# Altium schematic symbol library kmilo17pet-NSC_Switcher.SchLib: 2226 symbols (part 49 of 59)
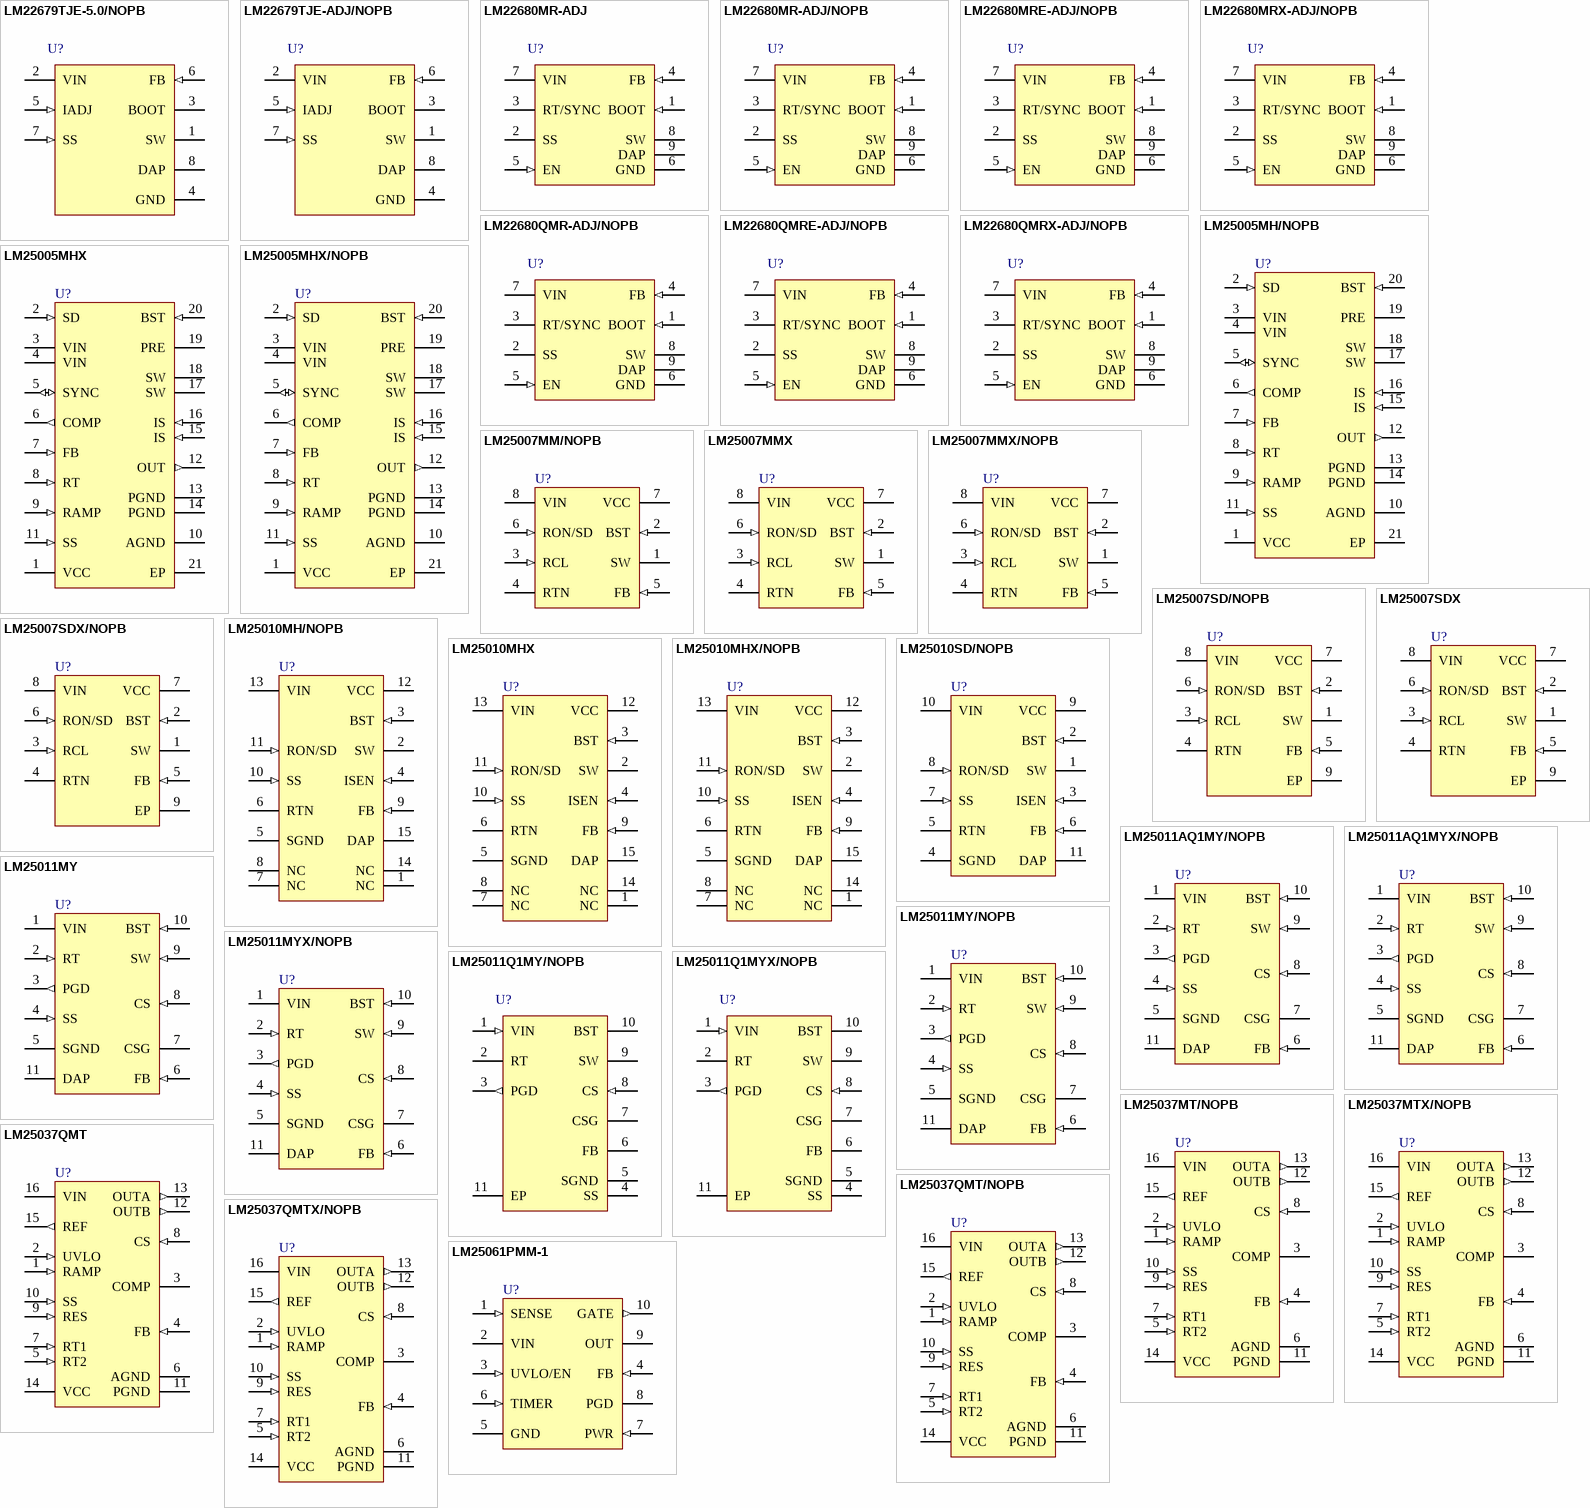
[diagram p117: symbols LM22679TJE-5.0/NOPB to LM25061PMM-1]

## LM22679TJE-ADJ/NOPB
designator U?
5A SIMPLE SWITCHER®, Step-Down Voltage Regulator with Adjustable Soft-Start and Current Limit, 7-pin TO-263 Thin, Pb-Free; PartNumber: LM22679TJE-ADJ/NOPB; Manufacturer: National Semiconductor; PackageTopMarking: NSUZXYTTE#*LM22679*TJ-ADJ; PowerWise: N; High-Reliability: Y; DatasheetVersion: Oct-2008; PackageVersion: revC, Jan-2008; PackageReference: TJ7A; PackageDescription: Thin TO-263, Molded, 9.85 x 10.16 x 2mm Body, 7 Lead, 1.27mm Pitch, Surface Mount; RoHS: Y; PinCount: 7; CompType: Switcher; ComponentLink1Description: Manufacturer URL; ComponentLink1URL: http://www.national.com/; ComponentLink2Description: LM22679 Datasheet; ComponentLink2URL: http://www.national.com/ds/LM/LM22679.pdf; ComponentLink3Description: LM22679 Web Page; ComponentLink3URL: http://www.national.com/pf/LM/LM22679.html; ComponentLink4Description: TJ7A Package Page; ComponentLink4URL: http://www.national.com/packaging/folders/tj7a.html
footprint TJ7A_N (D2-PAK, 8-Leads, Body 9.9x10.2mm, Pitch 1.27mm, Lead Span 14mm, IPC Medium Density)
footprint TJ7A_L (D2-PAK, 8-Leads, Body 9.9x10.2mm, Pitch 1.27mm, Lead Span 14mm, IPC High Density)
footprint TJ7A_M (D2-PAK, 8-Leads, Body 9.9x10.2mm, Pitch 1.27mm, Lead Span 14mm, IPC Low Density)
pins: 1 SW (power), 2 VIN (power), 3 BOOT, 4 GND (power), 5 IADJ (in), 6 FB (in), 7 SS (in), 8 DAP (power)

## LM22680MR-ADJ
designator U?
2A SIMPLE SWITCHER®, Step-Down Voltage Regulator with Features, 8-pin PSOP; PartNumber: LM22680MR-ADJ; Manufacturer: National Semiconductor; PackageTopMarking: NSXYTT*L22680*-ADJ; PowerWise: N; High-Reliability: Y; DatasheetVersion: Jan-2011; PackageVersion: revB, Dec-2007; PackageReference: MRA08B; PackageDescription: Molded, PSOP .193 x .154 x .058in, 8 Lead, .050in Pitch, Large DAP; RoHS: Y; PinCount: 8; CompType: Switcher; Code_JEDEC: MS-012-AA; ComponentLink1Description: Manufacturer URL; ComponentLink1URL: http://www.national.com/; ComponentLink2Description: LM22680 Datasheet; ComponentLink2URL: http://www.national.com/ds/LM/LM22680.pdf; ComponentLink3Description: LM22680 Web Page; ComponentLink3URL: http://www.national.com/pf/LM/LM22680.html; ComponentLink4Description: MRA08B Package Page; ComponentLink4URL: http://www.national.com/packaging/folders/mra08b.html
footprint MRA08B_N (SOIC, 8-Leads, Body 4.9x3.9mm, Pitch 1.27mm, Thermal Pad, IPC Medium Density)
footprint MRA08B_L (SOIC, 8-Leads, Body 4.9x3.9mm, Pitch 1.27mm, Thermal Pad, IPC High Density)
footprint MRA08B_M (SOIC, 8-Leads, Body 4.9x3.9mm, Pitch 1.27mm, Thermal Pad, IPC Low Density)
pins: 1 BOOT (in), 2 SS, 3 RT/SYNC, 4 FB (in), 5 EN (in), 6 GND (power), 7 VIN (power), 8 SW, 9 DAP

## LM22680MR-ADJ/NOPB
designator U?
2A SIMPLE SWITCHER®, Step-Down Voltage Regulator with Features, 8-pin PSOP, Pb-Free; PartNumber: LM22680MR-ADJ/NOPB; Manufacturer: National Semiconductor; PackageTopMarking: NSXYTT*L22680*-ADJ; PowerWise: N; High-Reliability: Y; DatasheetVersion: Jan-2011; PackageVersion: revB, Dec-2007; PackageReference: MRA08B; PackageDescription: Molded, PSOP .193 x .154 x .058in, 8 Lead, .050in Pitch, Large DAP; RoHS: Y; PinCount: 8; CompType: Switcher; Code_JEDEC: MS-012-AA; ComponentLink1Description: Manufacturer URL; ComponentLink1URL: http://www.national.com/; ComponentLink2Description: LM22680 Datasheet; ComponentLink2URL: http://www.national.com/ds/LM/LM22680.pdf; ComponentLink3Description: LM22680 Web Page; ComponentLink3URL: http://www.national.com/pf/LM/LM22680.html; ComponentLink4Description: MRA08B Package Page; ComponentLink4URL: http://www.national.com/packaging/folders/mra08b.html
footprint MRA08B_N (SOIC, 8-Leads, Body 4.9x3.9mm, Pitch 1.27mm, Thermal Pad, IPC Medium Density)
footprint MRA08B_L (SOIC, 8-Leads, Body 4.9x3.9mm, Pitch 1.27mm, Thermal Pad, IPC High Density)
footprint MRA08B_M (SOIC, 8-Leads, Body 4.9x3.9mm, Pitch 1.27mm, Thermal Pad, IPC Low Density)
pins: 1 BOOT (in), 2 SS, 3 RT/SYNC, 4 FB (in), 5 EN (in), 6 GND (power), 7 VIN (power), 8 SW, 9 DAP

## LM22680MRE-ADJ/NOPB
designator U?
2A SIMPLE SWITCHER®, Step-Down Voltage Regulator with Features, 8-pin PSOP, Pb-Free; PartNumber: LM22680MRE-ADJ/NOPB; Manufacturer: National Semiconductor; PackageTopMarking: NSXYTT*L22680*-ADJ; PowerWise: N; High-Reliability: Y; DatasheetVersion: Jan-2011; PackageVersion: revB, Dec-2007; PackageReference: MRA08B; PackageDescription: Molded, PSOP .193 x .154 x .058in, 8 Lead, .050in Pitch, Large DAP; RoHS: Y; PinCount: 8; CompType: Switcher; Code_JEDEC: MS-012-AA; ComponentLink1Description: Manufacturer URL; ComponentLink1URL: http://www.national.com/; ComponentLink2Description: LM22680 Datasheet; ComponentLink2URL: http://www.national.com/ds/LM/LM22680.pdf; ComponentLink3Description: LM22680 Web Page; ComponentLink3URL: http://www.national.com/pf/LM/LM22680.html; ComponentLink4Description: MRA08B Package Page; ComponentLink4URL: http://www.national.com/packaging/folders/mra08b.html
footprint MRA08B_N (SOIC, 8-Leads, Body 4.9x3.9mm, Pitch 1.27mm, Thermal Pad, IPC Medium Density)
footprint MRA08B_L (SOIC, 8-Leads, Body 4.9x3.9mm, Pitch 1.27mm, Thermal Pad, IPC High Density)
footprint MRA08B_M (SOIC, 8-Leads, Body 4.9x3.9mm, Pitch 1.27mm, Thermal Pad, IPC Low Density)
pins: 1 BOOT (in), 2 SS, 3 RT/SYNC, 4 FB (in), 5 EN (in), 6 GND (power), 7 VIN (power), 8 SW, 9 DAP

## LM22680MRX-ADJ/NOPB
designator U?
2A SIMPLE SWITCHER®, Step-Down Voltage Regulator with Features, 8-pin PSOP, Pb-Free; PartNumber: LM22680MRX-ADJ/NOPB; Manufacturer: National Semiconductor; PackageTopMarking: NSXYTT*L22680*-ADJ; PowerWise: N; High-Reliability: Y; DatasheetVersion: Jan-2011; PackageVersion: revB, Dec-2007; PackageReference: MRA08B; PackageDescription: Molded, PSOP .193 x .154 x .058in, 8 Lead, .050in Pitch, Large DAP; RoHS: Y; PinCount: 8; CompType: Switcher; Code_JEDEC: MS-012-AA; ComponentLink1Description: Manufacturer URL; ComponentLink1URL: http://www.national.com/; ComponentLink2Description: LM22680 Datasheet; ComponentLink2URL: http://www.national.com/ds/LM/LM22680.pdf; ComponentLink3Description: LM22680 Web Page; ComponentLink3URL: http://www.national.com/pf/LM/LM22680.html; ComponentLink4Description: MRA08B Package Page; ComponentLink4URL: http://www.national.com/packaging/folders/mra08b.html
footprint MRA08B_N (SOIC, 8-Leads, Body 4.9x3.9mm, Pitch 1.27mm, Thermal Pad, IPC Medium Density)
footprint MRA08B_L (SOIC, 8-Leads, Body 4.9x3.9mm, Pitch 1.27mm, Thermal Pad, IPC High Density)
footprint MRA08B_M (SOIC, 8-Leads, Body 4.9x3.9mm, Pitch 1.27mm, Thermal Pad, IPC Low Density)
pins: 1 BOOT (in), 2 SS, 3 RT/SYNC, 4 FB (in), 5 EN (in), 6 GND (power), 7 VIN (power), 8 SW, 9 DAP

## LM22680QMR-ADJ/NOPB
designator U?
2A SIMPLE SWITCHER®, Step-Down Voltage Regulator with Features, Adjustable Output, Automotive Grade, 8-pin PSOP, 95 Rail; PartNumber: LM22680QMR-ADJ/NOPB; Manufacturer: National Semiconductor; PackageTopMarking: NSXYTT*L22680*Q-ADJ; PowerWise: N; High-Reliability: Y; DatasheetVersion: Jan-2011; PackageVersion: revB, Dec-2007; PackageReference: MRA08B; PackageDescription: Molded, PSOP .193 x .154 x .058in, 8 Lead, .050in Pitch, Large DAP; RoHS: Y; PinCount: 8; CompType: Switcher; Code_JEDEC: MS-012-AA; ComponentLink1Description: Manufacturer URL; ComponentLink1URL: http://www.national.com/; ComponentLink2Description: LM22680 Datasheet; ComponentLink2URL: http://www.national.com/ds/LM/LM22680.pdf; ComponentLink3Description: LM22680 Web Page; ComponentLink3URL: http://www.national.com/pf/LM/LM22680.html; ComponentLink4Description: MRA08B Package Page; ComponentLink4URL: http://www.national.com/packaging/folders/mra08b.html
footprint MRA08B_N (SOIC, 8-Leads, Body 4.9x3.9mm, Pitch 1.27mm, Thermal Pad, IPC Medium Density)
footprint MRA08B_L (SOIC, 8-Leads, Body 4.9x3.9mm, Pitch 1.27mm, Thermal Pad, IPC High Density)
footprint MRA08B_M (SOIC, 8-Leads, Body 4.9x3.9mm, Pitch 1.27mm, Thermal Pad, IPC Low Density)
pins: 1 BOOT (in), 2 SS, 3 RT/SYNC, 4 FB (in), 5 EN (in), 6 GND (power), 7 VIN (power), 8 SW, 9 DAP

## LM22680QMRE-ADJ/NOPB
designator U?
2A SIMPLE SWITCHER®, Step-Down Voltage Regulator with Features, Adjustable Output, Automotive Grade, 8-pin PSOP, 250 Reel; PartNumber: LM22680QMRE-ADJ/NOPB; Manufacturer: National Semiconductor; PackageTopMarking: NSXYTT*L22680*Q-ADJ; PowerWise: N; High-Reliability: Y; DatasheetVersion: Jan-2011; PackageVersion: revB, Dec-2007; PackageReference: MRA08B; PackageDescription: Molded, PSOP .193 x .154 x .058in, 8 Lead, .050in Pitch, Large DAP; RoHS: Y; PinCount: 8; CompType: Switcher; Code_JEDEC: MS-012-AA; ComponentLink1Description: Manufacturer URL; ComponentLink1URL: http://www.national.com/; ComponentLink2Description: LM22680 Datasheet; ComponentLink2URL: http://www.national.com/ds/LM/LM22680.pdf; ComponentLink3Description: LM22680 Web Page; ComponentLink3URL: http://www.national.com/pf/LM/LM22680.html; ComponentLink4Description: MRA08B Package Page; ComponentLink4URL: http://www.national.com/packaging/folders/mra08b.html
footprint MRA08B_N (SOIC, 8-Leads, Body 4.9x3.9mm, Pitch 1.27mm, Thermal Pad, IPC Medium Density)
footprint MRA08B_L (SOIC, 8-Leads, Body 4.9x3.9mm, Pitch 1.27mm, Thermal Pad, IPC High Density)
footprint MRA08B_M (SOIC, 8-Leads, Body 4.9x3.9mm, Pitch 1.27mm, Thermal Pad, IPC Low Density)
pins: 1 BOOT (in), 2 SS, 3 RT/SYNC, 4 FB (in), 5 EN (in), 6 GND (power), 7 VIN (power), 8 SW, 9 DAP

## LM22680QMRX-ADJ/NOPB
designator U?
2A SIMPLE SWITCHER®, Step-Down Voltage Regulator with Features, Adjustable Output, Automotive Grade, 8-pin PSOP, 2500 Reel; PartNumber: LM22680QMRX-ADJ/NOPB; Manufacturer: National Semiconductor; PackageTopMarking: NSXYTT*L22680*Q-ADJ; PowerWise: N; High-Reliability: Y; DatasheetVersion: Jan-2011; PackageVersion: revB, Dec-2007; PackageReference: MRA08B; PackageDescription: Molded, PSOP .193 x .154 x .058in, 8 Lead, .050in Pitch, Large DAP; RoHS: Y; PinCount: 8; CompType: Switcher; Code_JEDEC: MS-012-AA; ComponentLink1Description: Manufacturer URL; ComponentLink1URL: http://www.national.com/; ComponentLink2Description: LM22680 Datasheet; ComponentLink2URL: http://www.national.com/ds/LM/LM22680.pdf; ComponentLink3Description: LM22680 Web Page; ComponentLink3URL: http://www.national.com/pf/LM/LM22680.html; ComponentLink4Description: MRA08B Package Page; ComponentLink4URL: http://www.national.com/packaging/folders/mra08b.html
footprint MRA08B_N (SOIC, 8-Leads, Body 4.9x3.9mm, Pitch 1.27mm, Thermal Pad, IPC Medium Density)
footprint MRA08B_L (SOIC, 8-Leads, Body 4.9x3.9mm, Pitch 1.27mm, Thermal Pad, IPC High Density)
footprint MRA08B_M (SOIC, 8-Leads, Body 4.9x3.9mm, Pitch 1.27mm, Thermal Pad, IPC Low Density)
pins: 1 BOOT (in), 2 SS, 3 RT/SYNC, 4 FB (in), 5 EN (in), 6 GND (power), 7 VIN (power), 8 SW, 9 DAP

## LM25005MH/NOPB
designator U?
42V, 2.5A Step-Down Switching Regulator, 20-pin TSSOP-EP, Pb-Free; PartNumber: LM25005MH/NOPB; Manufacturer: National Semiconductor; PackageTopMarking: NSUZXYTT*LM25005*MH; PowerWise: N; CompType: Switcher; High-Reliability: Y; DatasheetVersion: Mar-2006; PackageVersion: revC, Jul-2006; PackageReference: MXA20A; PackageDescription: Molded TSSOP, Jedec, 6.5 x 4.4 x 0.9mm Body, 20 Lead, 0.65mm Pitch, Exposed Pad; RoHS: Y; PinCount: 20; Code_JEDEC: MO-153-ACT; ComponentLink1Description: Manufacturer URL; ComponentLink1URL: http://www.national.com/; ComponentLink2Description: LM25005 Datasheet; ComponentLink2URL: http://www.national.com/ds/LM/LM25005.pdf; ComponentLink3Description: LM25005 Web Page; ComponentLink3URL: http://www.national.com/pf/LM/LM25005.html; ComponentLink4Description: MXA20A Package Page; ComponentLink4URL: http://www.national.com/packaging/folders/mxa20a.html
footprint MXA20A_N (TSOP, 20-Leads, Body 6.5x4.4mm, Pitch 0.65mm, Thermal Pad, IPC Medium Density)
footprint MXA20A_L (TSOP, 20-Leads, Body 6.5x4.4mm, Pitch 0.65mm, Thermal Pad, IPC High Density)
footprint MXA20A_M (TSOP, 20-Leads, Body 6.5x4.4mm, Pitch 0.65mm, Thermal Pad, IPC Low Density)
pins: 1 VCC (power), 2 SD (in), 3 VIN (power), 4 VIN (power), 5 SYNC (io), 6 COMP (out), 7 FB (in), 8 RT (in), 9 RAMP (in), 10 AGND (power), 11 SS (in), 12 OUT (out), 13 PGND (power), 14 PGND (power), 15 IS (in), 16 IS (in), 17 SW (power), 18 SW (power), 19 PRE (oc), 20 BST (in), 21 EP (power)

## LM25005MHX
designator U?
42V, 2.5A Step-Down Switching Regulator, 20-pin TSSOP-EP; PartNumber: LM25005MHX; Manufacturer: National Semiconductor; PackageTopMarking: NSUZXYTT*LM25005*MH; PowerWise: N; CompType: Switcher; High-Reliability: Y; DatasheetVersion: Mar-2006; PackageVersion: revC, Jul-2006; PackageReference: MXA20A; PackageDescription: Molded TSSOP, Jedec, 6.5 x 4.4 x 0.9mm Body, 20 Lead, 0.65mm Pitch, Exposed Pad; RoHS: N; PinCount: 20; Code_JEDEC: MO-153-ACT; ComponentLink1Description: Manufacturer URL; ComponentLink1URL: http://www.national.com/; ComponentLink2Description: LM25005 Datasheet; ComponentLink2URL: http://www.national.com/ds/LM/LM25005.pdf; ComponentLink3Description: LM25005 Web Page; ComponentLink3URL: http://www.national.com/pf/LM/LM25005.html; ComponentLink4Description: MXA20A Package Page; ComponentLink4URL: http://www.national.com/packaging/folders/mxa20a.html
footprint MXA20A_N (TSOP, 20-Leads, Body 6.5x4.4mm, Pitch 0.65mm, Thermal Pad, IPC Medium Density)
footprint MXA20A_L (TSOP, 20-Leads, Body 6.5x4.4mm, Pitch 0.65mm, Thermal Pad, IPC High Density)
footprint MXA20A_M (TSOP, 20-Leads, Body 6.5x4.4mm, Pitch 0.65mm, Thermal Pad, IPC Low Density)
pins: 1 VCC (power), 2 SD (in), 3 VIN (power), 4 VIN (power), 5 SYNC (io), 6 COMP (out), 7 FB (in), 8 RT (in), 9 RAMP (in), 10 AGND (power), 11 SS (in), 12 OUT (out), 13 PGND (power), 14 PGND (power), 15 IS (in), 16 IS (in), 17 SW (power), 18 SW (power), 19 PRE (oc), 20 BST (in), 21 EP (power)

## LM25005MHX/NOPB
designator U?
42V, 2.5A Step-Down Switching Regulator, 20-pin TSSOP-EP, Pb-Free; PartNumber: LM25005MHX/NOPB; Manufacturer: National Semiconductor; PackageTopMarking: NSUZXYTT*LM25005*MH; PowerWise: N; CompType: Switcher; High-Reliability: Y; DatasheetVersion: Mar-2006; PackageVersion: revC, Jul-2006; PackageReference: MXA20A; PackageDescription: Molded TSSOP, Jedec, 6.5 x 4.4 x 0.9mm Body, 20 Lead, 0.65mm Pitch, Exposed Pad; RoHS: Y; PinCount: 20; Code_JEDEC: MO-153-ACT; ComponentLink1Description: Manufacturer URL; ComponentLink1URL: http://www.national.com/; ComponentLink2Description: LM25005 Datasheet; ComponentLink2URL: http://www.national.com/ds/LM/LM25005.pdf; ComponentLink3Description: LM25005 Web Page; ComponentLink3URL: http://www.national.com/pf/LM/LM25005.html; ComponentLink4Description: MXA20A Package Page; ComponentLink4URL: http://www.national.com/packaging/folders/mxa20a.html
footprint MXA20A_N (TSOP, 20-Leads, Body 6.5x4.4mm, Pitch 0.65mm, Thermal Pad, IPC Medium Density)
footprint MXA20A_L (TSOP, 20-Leads, Body 6.5x4.4mm, Pitch 0.65mm, Thermal Pad, IPC High Density)
footprint MXA20A_M (TSOP, 20-Leads, Body 6.5x4.4mm, Pitch 0.65mm, Thermal Pad, IPC Low Density)
pins: 1 VCC (power), 2 SD (in), 3 VIN (power), 4 VIN (power), 5 SYNC (io), 6 COMP (out), 7 FB (in), 8 RT (in), 9 RAMP (in), 10 AGND (power), 11 SS (in), 12 OUT (out), 13 PGND (power), 14 PGND (power), 15 IS (in), 16 IS (in), 17 SW (power), 18 SW (power), 19 PRE (oc), 20 BST (in), 21 EP (power)

## LM25007MM/NOPB
designator U?
42V, 0.5A Step-Down Switching Regulator, 8-pin MSOP, Pb-Free; PartNumber: LM25007MM/NOPB; Manufacturer: National Semiconductor; PackageTopMarking: ZXTT*SLYB; PowerWise: N; CompType: Switcher; High-Reliability: Y; DatasheetVersion: Feb-2008; PackageVersion: revF, Apr-2008; PackageReference: MUA08A; PackageDescription: MINI SOIC, .118 x .118 x .034in, 8 Lead, .0256in Pitch; RoHS: Y; PinCount: 8; Code_JEDEC: MO-187-AA; ComponentLink1Description: Manufacturer URL; ComponentLink1URL: http://www.national.com/; ComponentLink2Description: LM25007 Datasheet; ComponentLink2URL: http://www.national.com/ds/LM/LM25007.pdf; ComponentLink3Description: LM25007 Web Page; ComponentLink3URL: http://www.national.com/pf/LM/LM25007.html; ComponentLink4Description: MUA08A Package Page; ComponentLink4URL: http://www.national.com/packaging/folders/mua08a.html
footprint MUA08A_N (TSOP, 8-Leads, Body 3x3mm, Pitch 0.65mm, IPC Medium Density)
footprint MUA08A_L (TSOP, 8-Leads, Body 3x3mm, Pitch 0.65mm, IPC High Density)
footprint MUA08A_M (TSOP, 8-Leads, Body 3x3mm, Pitch 0.65mm, IPC Low Density)
pins: 1 SW (power), 2 BST (in), 3 RCL (in), 4 RTN (power), 5 FB (in), 6 RON/SD (in), 7 VCC (power), 8 VIN (power)

## LM25007MMX
designator U?
42V, 0.5A Step-Down Switching Regulator, 8-pin MSOP; PartNumber: LM25007MMX; Manufacturer: National Semiconductor; PackageTopMarking: ZXTT*SLYB; PowerWise: N; CompType: Switcher; High-Reliability: Y; DatasheetVersion: Feb-2008; PackageVersion: revF, Apr-2008; PackageReference: MUA08A; PackageDescription: MINI SOIC, .118 x .118 x .034in, 8 Lead, .0256in Pitch; RoHS: N; PinCount: 8; Code_JEDEC: MO-187-AA; ComponentLink1Description: Manufacturer URL; ComponentLink1URL: http://www.national.com/; ComponentLink2Description: LM25007 Datasheet; ComponentLink2URL: http://www.national.com/ds/LM/LM25007.pdf; ComponentLink3Description: LM25007 Web Page; ComponentLink3URL: http://www.national.com/pf/LM/LM25007.html; ComponentLink4Description: MUA08A Package Page; ComponentLink4URL: http://www.national.com/packaging/folders/mua08a.html
footprint MUA08A_N (TSOP, 8-Leads, Body 3x3mm, Pitch 0.65mm, IPC Medium Density)
footprint MUA08A_L (TSOP, 8-Leads, Body 3x3mm, Pitch 0.65mm, IPC High Density)
footprint MUA08A_M (TSOP, 8-Leads, Body 3x3mm, Pitch 0.65mm, IPC Low Density)
pins: 1 SW (power), 2 BST (in), 3 RCL (in), 4 RTN (power), 5 FB (in), 6 RON/SD (in), 7 VCC (power), 8 VIN (power)

## LM25007MMX/NOPB
designator U?
42V, 0.5A Step-Down Switching Regulator, 8-pin MSOP, Pb-Free; PartNumber: LM25007MMX/NOPB; Manufacturer: National Semiconductor; PackageTopMarking: ZXTT*SLYB; PowerWise: N; CompType: Switcher; High-Reliability: Y; DatasheetVersion: Feb-2008; PackageVersion: revF, Apr-2008; PackageReference: MUA08A; PackageDescription: MINI SOIC, .118 x .118 x .034in, 8 Lead, .0256in Pitch; RoHS: Y; PinCount: 8; Code_JEDEC: MO-187-AA; ComponentLink1Description: Manufacturer URL; ComponentLink1URL: http://www.national.com/; ComponentLink2Description: LM25007 Datasheet; ComponentLink2URL: http://www.national.com/ds/LM/LM25007.pdf; ComponentLink3Description: LM25007 Web Page; ComponentLink3URL: http://www.national.com/pf/LM/LM25007.html; ComponentLink4Description: MUA08A Package Page; ComponentLink4URL: http://www.national.com/packaging/folders/mua08a.html
footprint MUA08A_N (TSOP, 8-Leads, Body 3x3mm, Pitch 0.65mm, IPC Medium Density)
footprint MUA08A_L (TSOP, 8-Leads, Body 3x3mm, Pitch 0.65mm, IPC High Density)
footprint MUA08A_M (TSOP, 8-Leads, Body 3x3mm, Pitch 0.65mm, IPC Low Density)
pins: 1 SW (power), 2 BST (in), 3 RCL (in), 4 RTN (power), 5 FB (in), 6 RON/SD (in), 7 VCC (power), 8 VIN (power)

## LM25007SD/NOPB
designator U?
42V, 0.5A Step-Down Switching Regulator, 8-pin LLP, Pb-Free; PartNumber: LM25007SD/NOPB; Manufacturer: National Semiconductor; PackageTopMarking: NS*UZXYTT*25007SD; PowerWise: N; CompType: Switcher; High-Reliability: Y; DatasheetVersion: Feb-2008; PackageVersion: revA, Jun-2003; PackageReference: SDC08A; PackageDescription: LLP, Plastic, Dual, 4 x 4 x 0.8mm Body, 8 Lead, 0.8mm Pitch, No Pullback; RoHS: Y; PinCount: 8; ComponentLink1Description: Manufacturer URL; ComponentLink1URL: http://www.national.com/; ComponentLink2Description: LM25007 Datasheet; ComponentLink2URL: http://www.national.com/ds/LM/LM25007.pdf; ComponentLink3Description: LM25007 Web Page; ComponentLink3URL: http://www.national.com/pf/LM/LM25007.html; ComponentLink4Description: SDC08A Package Page; ComponentLink4URL: http://www.national.com/packaging/folders/sdc08a.html
footprint SDC08A (SON, 8-Leads, Body 4x4mm, Pitch 0.8mm, NSC Recommended)
pins: 1 SW (power), 2 BST (in), 3 RCL (in), 4 RTN (power), 5 FB (in), 6 RON/SD (in), 7 VCC (power), 8 VIN (power), 9 EP (power)

## LM25007SDX
designator U?
42V, 0.5A Step-Down Switching Regulator, 8-pin LLP; PartNumber: LM25007SDX; Manufacturer: National Semiconductor; PackageTopMarking: NS*UZXYTT*25007SD; PowerWise: N; CompType: Switcher; High-Reliability: Y; DatasheetVersion: Feb-2008; PackageVersion: revA, Jun-2003; PackageReference: SDC08A; PackageDescription: LLP, Plastic, Dual, 4 x 4 x 0.8mm Body, 8 Lead, 0.8mm Pitch, No Pullback; RoHS: N; PinCount: 8; ComponentLink1Description: Manufacturer URL; ComponentLink1URL: http://www.national.com/; ComponentLink2Description: LM25007 Datasheet; ComponentLink2URL: http://www.national.com/ds/LM/LM25007.pdf; ComponentLink3Description: LM25007 Web Page; ComponentLink3URL: http://www.national.com/pf/LM/LM25007.html; ComponentLink4Description: SDC08A Package Page; ComponentLink4URL: http://www.national.com/packaging/folders/sdc08a.html
footprint SDC08A (SON, 8-Leads, Body 4x4mm, Pitch 0.8mm, NSC Recommended)
pins: 1 SW (power), 2 BST (in), 3 RCL (in), 4 RTN (power), 5 FB (in), 6 RON/SD (in), 7 VCC (power), 8 VIN (power), 9 EP (power)

## LM25007SDX/NOPB
designator U?
42V, 0.5A Step-Down Switching Regulator, 8-pin LLP, Pb-Free; PartNumber: LM25007SDX/NOPB; Manufacturer: National Semiconductor; PackageTopMarking: NS*UZXYTT*25007SD; PowerWise: N; CompType: Switcher; High-Reliability: Y; DatasheetVersion: Feb-2008; PackageVersion: revA, Jun-2003; PackageReference: SDC08A; PackageDescription: LLP, Plastic, Dual, 4 x 4 x 0.8mm Body, 8 Lead, 0.8mm Pitch, No Pullback; RoHS: Y; PinCount: 8; ComponentLink1Description: Manufacturer URL; ComponentLink1URL: http://www.national.com/; ComponentLink2Description: LM25007 Datasheet; ComponentLink2URL: http://www.national.com/ds/LM/LM25007.pdf; ComponentLink3Description: LM25007 Web Page; ComponentLink3URL: http://www.national.com/pf/LM/LM25007.html; ComponentLink4Description: SDC08A Package Page; ComponentLink4URL: http://www.national.com/packaging/folders/sdc08a.html
footprint SDC08A (SON, 8-Leads, Body 4x4mm, Pitch 0.8mm, NSC Recommended)
pins: 1 SW (power), 2 BST (in), 3 RCL (in), 4 RTN (power), 5 FB (in), 6 RON/SD (in), 7 VCC (power), 8 VIN (power), 9 EP (power)

## LM25010MH/NOPB
designator U?
42V, 1.0A Step-Down Switching Regulator, 14-pin TSSOP-EP, Pb-Free; PartNumber: LM25010MH/NOPB; Manufacturer: National Semiconductor; PackageTopMarking: NSUZXYTT*L25010*MH; PowerWise: N; CompType: Switcher; High-Reliability: Y; DatasheetVersion: Dec-2008; PackageVersion: revA, Feb-2003; PackageReference: MXA14A; PackageDescription: Molded TSSOP, JEDEC, Exposed Pad, 5.0 x 4.4 x 0.9mm Body, 14 Lead, 0.65mm Pitch; RoHS: Y; PinCount: 14; Code_JEDEC: MO-153-ABT-1; ComponentLink1Description: Manufacturer URL; ComponentLink1URL: http://www.national.com/; ComponentLink2Description: LM25010 Datasheet; ComponentLink2URL: http://www.national.com/ds/LM/LM25010.pdf; ComponentLink3Description: LM25010 Web Page; ComponentLink3URL: http://www.national.com/pf/LM/LM25010.html; ComponentLink4Description: MXA14A Package Page; ComponentLink4URL: http://www.national.com/packaging/folders/mxa14a.html
footprint MXA14A_N (TSOP, 14-Leads, Body 5x4.4mm, Pitch 0.65mm, Thermal Pad, IPC Medium Density)
footprint MXA14A_L (TSOP, 14-Leads, Body 5x4.4mm, Pitch 0.65mm, Thermal Pad, IPC High Density)
footprint MXA14A_M (TSOP, 14-Leads, Body 5x4.4mm, Pitch 0.65mm, Thermal Pad, IPC Low Density)
pins: 1 NC, 2 SW (power), 3 BST (in), 4 ISEN (in), 5 SGND (power), 6 RTN (power), 7 NC, 8 NC, 9 FB (in), 10 SS (in), 11 RON/SD (in), 12 VCC (power), 13 VIN (power), 14 NC, 15 DAP (power)

## LM25010MHX
designator U?
42V, 1.0A Step-Down Switching Regulator, 14-pin TSSOP-EP; PartNumber: LM25010MHX; Manufacturer: National Semiconductor; PackageTopMarking: NSUZXYTT*L25010*MH; PowerWise: N; CompType: Switcher; High-Reliability: Y; DatasheetVersion: Dec-2008; PackageVersion: revA, Feb-2003; PackageReference: MXA14A; PackageDescription: Molded TSSOP, JEDEC, Exposed Pad, 5.0 x 4.4 x 0.9mm Body, 14 Lead, 0.65mm Pitch; RoHS: N; PinCount: 14; Code_JEDEC: MO-153-ABT-1; ComponentLink1Description: Manufacturer URL; ComponentLink1URL: http://www.national.com/; ComponentLink2Description: LM25010 Datasheet; ComponentLink2URL: http://www.national.com/ds/LM/LM25010.pdf; ComponentLink3Description: LM25010 Web Page; ComponentLink3URL: http://www.national.com/pf/LM/LM25010.html; ComponentLink4Description: MXA14A Package Page; ComponentLink4URL: http://www.national.com/packaging/folders/mxa14a.html
footprint MXA14A_N (TSOP, 14-Leads, Body 5x4.4mm, Pitch 0.65mm, Thermal Pad, IPC Medium Density)
footprint MXA14A_L (TSOP, 14-Leads, Body 5x4.4mm, Pitch 0.65mm, Thermal Pad, IPC High Density)
footprint MXA14A_M (TSOP, 14-Leads, Body 5x4.4mm, Pitch 0.65mm, Thermal Pad, IPC Low Density)
pins: 1 NC, 2 SW (power), 3 BST (in), 4 ISEN (in), 5 SGND (power), 6 RTN (power), 7 NC, 8 NC, 9 FB (in), 10 SS (in), 11 RON/SD (in), 12 VCC (power), 13 VIN (power), 14 NC, 15 DAP (power)

## LM25010MHX/NOPB
designator U?
42V, 1.0A Step-Down Switching Regulator, 14-pin TSSOP-EP, Pb-Free; PartNumber: LM25010MHX/NOPB; Manufacturer: National Semiconductor; PackageTopMarking: NSUZXYTT*L25010*MH; PowerWise: N; CompType: Switcher; High-Reliability: Y; DatasheetVersion: Dec-2008; PackageVersion: revA, Feb-2003; PackageReference: MXA14A; PackageDescription: Molded TSSOP, JEDEC, Exposed Pad, 5.0 x 4.4 x 0.9mm Body, 14 Lead, 0.65mm Pitch; RoHS: Y; PinCount: 14; Code_JEDEC: MO-153-ABT-1; ComponentLink1Description: Manufacturer URL; ComponentLink1URL: http://www.national.com/; ComponentLink2Description: LM25010 Datasheet; ComponentLink2URL: http://www.national.com/ds/LM/LM25010.pdf; ComponentLink3Description: LM25010 Web Page; ComponentLink3URL: http://www.national.com/pf/LM/LM25010.html; ComponentLink4Description: MXA14A Package Page; ComponentLink4URL: http://www.national.com/packaging/folders/mxa14a.html
footprint MXA14A_N (TSOP, 14-Leads, Body 5x4.4mm, Pitch 0.65mm, Thermal Pad, IPC Medium Density)
footprint MXA14A_L (TSOP, 14-Leads, Body 5x4.4mm, Pitch 0.65mm, Thermal Pad, IPC High Density)
footprint MXA14A_M (TSOP, 14-Leads, Body 5x4.4mm, Pitch 0.65mm, Thermal Pad, IPC Low Density)
pins: 1 NC, 2 SW (power), 3 BST (in), 4 ISEN (in), 5 SGND (power), 6 RTN (power), 7 NC, 8 NC, 9 FB (in), 10 SS (in), 11 RON/SD (in), 12 VCC (power), 13 VIN (power), 14 NC, 15 DAP (power)

## LM25010SD/NOPB
designator U?
42V, 1.0A Step-Down Switching Regulator, 10-pin LLP, Pb-Free; PartNumber: LM25010SD/NOPB; Manufacturer: National Semiconductor; PackageTopMarking: NS*UZXYTT*25010SD; PowerWise: N; CompType: Switcher; High-Reliability: Y; DatasheetVersion: Dec-2008; PackageVersion: revA, May-2003; PackageReference: SDC10A; PackageDescription: LLP, Plastic, Dual, 4 x 4 x 0.8mm Body, 10 Lead, 0.8mm Pitch, No Pullback; RoHS: Y; PinCount: 10; ComponentLink1Description: Manufacturer URL; ComponentLink1URL: http://www.national.com/; ComponentLink2Description: LM25010 Datasheet; ComponentLink2URL: http://www.national.com/ds/LM/LM25010.pdf; ComponentLink3Description: LM25010 Web Page; ComponentLink3URL: http://www.national.com/pf/LM/LM25010.html; ComponentLink4Description: SDC10A Package Page; ComponentLink4URL: http://www.national.com/packaging/folders/sdc10a.html
footprint SDC10A (SON, 10-Leads, Body 4x4 mm, Pitch 0.8mm, NSC Recommended)
pins: 1 SW (power), 2 BST (in), 3 ISEN (in), 4 SGND (power), 5 RTN (power), 6 FB (in), 7 SS (in), 8 RON/SD (in), 9 VCC (power), 10 VIN (power), 11 DAP (power)

## LM25011AQ1MY/NOPB
designator U?
42V, 2A Constant On-Time Switching Regulator with Adjustable Current Limit, AEC-Q100 Grade 1, 10-pin Emsop, 1000 Reel; PartNumber: LM25011AQ1MY/NOPB; Manufacturer: National Semiconductor; PackageTopMarking: ZXTT*SZZA; PowerWise: N; CompType: Switcher; High-Reliability: Y; DatasheetVersion: Jan-2011; PackageVersion: revA, May-2006; PackageReference: MUC10A; PackageDescription: Molded Mini-SO, Exposed Pad .118 x .118 x .034in Body, 10 Lead, .0197in Pitch; RoHS: Y; PinCount: 10; Code_JEDEC: MO-187-BAT; ComponentLink1Description: Manufacturer URL; ComponentLink1URL: http://www.national.com/; ComponentLink2Description: LM25011 Datasheet; ComponentLink2URL: http://www.national.com/ds/LM/LM25011.pdf; ComponentLink3Description: LM25011 Web Page; ComponentLink3URL: http://www.national.com/pf/LM/LM25011.html; ComponentLink4Description: MUC10A Package Page; ComponentLink4URL: http://www.national.com/packaging/folders/muc10a.html
footprint MUC10A_N (TSSOP, 10-Leads, Body 3x3mm, Pitch 0.5mm, Exposed Pad, IPC Medium Density)
footprint MUC10A_L (TSSOP, 10-Leads, Body 3x3mm, Pitch 0.5mm, Exposed Pad, IPC High Density)
footprint MUC10A_M (TSSOP, 10-Leads, Body 3x3mm, Pitch 0.5mm, Exposed Pad, IPC Low Density)
pins: 1 VIN (power), 2 RT (in), 3 PGD (out), 4 SS (in), 5 SGND (power), 6 FB (in), 7 CSG (power), 8 CS (in), 9 SW (in), 10 BST (in), 11 DAP (power)

## LM25011AQ1MYX/NOPB
designator U?
42V, 2A Constant On-Time Switching Regulator with Adjustable Current Limit, AEC-Q100 Grade 1, 10-pin eMSOP, 3500 Reel; PartNumber: LM25011AQ1MYX/NOPB; Manufacturer: National Semiconductor; PackageTopMarking: ZXTT*SZZA; PowerWise: N; CompType: Switcher; High-Reliability: Y; DatasheetVersion: Jan-2011; PackageVersion: revA, May-2006; PackageReference: MUC10A; PackageDescription: Molded Mini-SO, Exposed Pad .118 x .118 x .034in Body, 10 Lead, .0197in Pitch; RoHS: Y; PinCount: 10; Code_JEDEC: MO-187-BAT; ComponentLink1Description: Manufacturer URL; ComponentLink1URL: http://www.national.com/; ComponentLink2Description: LM25011 Datasheet; ComponentLink2URL: http://www.national.com/ds/LM/LM25011.pdf; ComponentLink3Description: LM25011 Web Page; ComponentLink3URL: http://www.national.com/pf/LM/LM25011.html; ComponentLink4Description: MUC10A Package Page; ComponentLink4URL: http://www.national.com/packaging/folders/muc10a.html
footprint MUC10A_N (TSSOP, 10-Leads, Body 3x3mm, Pitch 0.5mm, Exposed Pad, IPC Medium Density)
footprint MUC10A_L (TSSOP, 10-Leads, Body 3x3mm, Pitch 0.5mm, Exposed Pad, IPC High Density)
footprint MUC10A_M (TSSOP, 10-Leads, Body 3x3mm, Pitch 0.5mm, Exposed Pad, IPC Low Density)
pins: 1 VIN (power), 2 RT (in), 3 PGD (out), 4 SS (in), 5 SGND (power), 6 FB (in), 7 CSG (power), 8 CS (in), 9 SW (in), 10 BST (in), 11 DAP (power)

## LM25011MY
designator U?
42V, 2A Constant On-Time Switching Regulator with Adjustable Current Limit, 10-pin eMSOP; PartNumber: LM25011MY; Manufacturer: National Semiconductor; PackageTopMarking: ZXTT*SVUB; PowerWise: N; CompType: Switcher; High-Reliability: Y; DatasheetVersion: Jan-2011; PackageVersion: revA, May-2006; PackageReference: MUC10A; PackageDescription: Molded Mini-SO, Exposed Pad .118 x .118 x .034in Body, 10 Lead, .0197in Pitch; RoHS: Y; PinCount: 10; Code_JEDEC: MO-187-BAT; ComponentLink1Description: Manufacturer URL; ComponentLink1URL: http://www.national.com/; ComponentLink2Description: LM25011 Datasheet; ComponentLink2URL: http://www.national.com/ds/LM/LM25011.pdf; ComponentLink3Description: LM25011 Web Page; ComponentLink3URL: http://www.national.com/pf/LM/LM25011.html; ComponentLink4Description: MUC10A Package Page; ComponentLink4URL: http://www.national.com/packaging/folders/muc10a.html
footprint MUC10A_N (TSSOP, 10-Leads, Body 3x3mm, Pitch 0.5mm, Exposed Pad, IPC Medium Density)
footprint MUC10A_L (TSSOP, 10-Leads, Body 3x3mm, Pitch 0.5mm, Exposed Pad, IPC High Density)
footprint MUC10A_M (TSSOP, 10-Leads, Body 3x3mm, Pitch 0.5mm, Exposed Pad, IPC Low Density)
pins: 1 VIN (power), 2 RT (in), 3 PGD (out), 4 SS (in), 5 SGND (power), 6 FB (in), 7 CSG (power), 8 CS (in), 9 SW (in), 10 BST (in), 11 DAP (power)

## LM25011MY/NOPB
designator U?
42V, 2A Constant On-Time Switching Regulator with Adjustable Current Limit, 10-pin eMSOP, Pb-Free; PartNumber: LM25011MY/NOPB; Manufacturer: National Semiconductor; PackageTopMarking: ZXTT*SVUB; PowerWise: N; CompType: Switcher; High-Reliability: Y; DatasheetVersion: Jan-2011; PackageVersion: revA, May-2006; PackageReference: MUC10A; PackageDescription: Molded Mini-SO, Exposed Pad .118 x .118 x .034in Body, 10 Lead, .0197in Pitch; RoHS: Y; PinCount: 10; Code_JEDEC: MO-187-BAT; ComponentLink1Description: Manufacturer URL; ComponentLink1URL: http://www.national.com/; ComponentLink2Description: LM25011 Datasheet; ComponentLink2URL: http://www.national.com/ds/LM/LM25011.pdf; ComponentLink3Description: LM25011 Web Page; ComponentLink3URL: http://www.national.com/pf/LM/LM25011.html; ComponentLink4Description: MUC10A Package Page; ComponentLink4URL: http://www.national.com/packaging/folders/muc10a.html
footprint MUC10A_N (TSSOP, 10-Leads, Body 3x3mm, Pitch 0.5mm, Exposed Pad, IPC Medium Density)
footprint MUC10A_L (TSSOP, 10-Leads, Body 3x3mm, Pitch 0.5mm, Exposed Pad, IPC High Density)
footprint MUC10A_M (TSSOP, 10-Leads, Body 3x3mm, Pitch 0.5mm, Exposed Pad, IPC Low Density)
pins: 1 VIN (power), 2 RT (in), 3 PGD (out), 4 SS (in), 5 SGND (power), 6 FB (in), 7 CSG (power), 8 CS (in), 9 SW (in), 10 BST (in), 11 DAP (power)

## LM25011MYX/NOPB
designator U?
42V, 2A Constant On-Time Switching Regulator with Adjustable Current Limit, 10-pin eMSOP, Pb-Free; PartNumber: LM25011MYX/NOPB; Manufacturer: National Semiconductor; PackageTopMarking: ZXTT*SVUB; PowerWise: N; CompType: Switcher; High-Reliability: Y; DatasheetVersion: Jan-2011; PackageVersion: revA, May-2006; PackageReference: MUC10A; PackageDescription: Molded Mini-SO, Exposed Pad .118 x .118 x .034in Body, 10 Lead, .0197in Pitch; RoHS: Y; PinCount: 10; Code_JEDEC: MO-187-BAT; ComponentLink1Description: Manufacturer URL; ComponentLink1URL: http://www.national.com/; ComponentLink2Description: LM25011 Datasheet; ComponentLink2URL: http://www.national.com/ds/LM/LM25011.pdf; ComponentLink3Description: LM25011 Web Page; ComponentLink3URL: http://www.national.com/pf/LM/LM25011.html; ComponentLink4Description: MUC10A Package Page; ComponentLink4URL: http://www.national.com/packaging/folders/muc10a.html
footprint MUC10A_N (TSSOP, 10-Leads, Body 3x3mm, Pitch 0.5mm, Exposed Pad, IPC Medium Density)
footprint MUC10A_L (TSSOP, 10-Leads, Body 3x3mm, Pitch 0.5mm, Exposed Pad, IPC High Density)
footprint MUC10A_M (TSSOP, 10-Leads, Body 3x3mm, Pitch 0.5mm, Exposed Pad, IPC Low Density)
pins: 1 VIN (power), 2 RT (in), 3 PGD (out), 4 SS (in), 5 SGND (power), 6 FB (in), 7 CSG (power), 8 CS (in), 9 SW (in), 10 BST (in), 11 DAP (power)

## LM25011Q1MY/NOPB
designator U?
42V, 2A Constant On-Time Switching Regulator with Adjustable Current Limit, 10 pin MINI SOIC EXP PAD; PartNumber: LM25011Q1MY/NOPB; Manufacturer: National Semiconductor; PackageTopMarking: ZXTT*SZFB; PowerWise: N; CompType: Switcher; High-Reliability: Y; DatasheetVersion: Jan-2011; PackageVersion: revA, May-2006; PackageReference: MUC10A; PackageDescription: Molded Mini-SO, Exposed Pad .118 x .118 x .034in Body, 10 Lead, .0197in Pitch; RoHS: Y; PinCount: 10; Code_JEDEC: MO-187-BAT; ComponentLink1Description: Manufacturer URL; ComponentLink1URL: http://www.national.com/; ComponentLink2Description: LM25011 Datasheet; ComponentLink2URL: http://www.national.com/ds/LM/LM25011.pdf; ComponentLink3Description: LM25011 Web Page; ComponentLink3URL: http://www.national.com/pf/LM/LM25011.html; ComponentLink4Description: MUC10A Package Page; ComponentLink4URL: http://www.national.com/packaging/folders/muc10a.html
footprint MUC10A_N (TSSOP, 10-Leads, Body 3x3mm, Pitch 0.5mm, Exposed Pad, IPC Medium Density)
footprint MUC10A_L (TSSOP, 10-Leads, Body 3x3mm, Pitch 0.5mm, Exposed Pad, IPC High Density)
footprint MUC10A_M (TSSOP, 10-Leads, Body 3x3mm, Pitch 0.5mm, Exposed Pad, IPC Low Density)
pins: 1 VIN (in), 2 RT, 3 PGD (out), 4 SS, 5 SGND (power), 6 FB, 7 CSG (oe), 8 CS (in), 9 SW, 10 BST, 11 EP (power)

## LM25011Q1MYX/NOPB
designator U?
42V, 2A Constant On-Time Switching Regulator with Adjustable Current Limit, 10 pin MINI SOIC EXP PAD; PartNumber: LM25011Q1MYX/NOPB; Manufacturer: National Semiconductor; PackageTopMarking: ZXTT*SZFB; PowerWise: N; CompType: Switcher; High-Reliability: Y; DatasheetVersion: Jan-2011; PackageVersion: revA, May-2006; PackageReference: MUC10A; PackageDescription: Molded Mini-SO, Exposed Pad .118 x .118 x .034in Body, 10 Lead, .0197in Pitch; RoHS: Y; PinCount: 10; Code_JEDEC: MO-187-BAT; ComponentLink1Description: Manufacturer URL; ComponentLink1URL: http://www.national.com/; ComponentLink2Description: LM25011 Datasheet; ComponentLink2URL: http://www.national.com/ds/LM/LM25011.pdf; ComponentLink3Description: LM25011 Web Page; ComponentLink3URL: http://www.national.com/pf/LM/LM25011.html; ComponentLink4Description: MUC10A Package Page; ComponentLink4URL: http://www.national.com/packaging/folders/muc10a.html
footprint MUC10A_N (TSSOP, 10-Leads, Body 3x3mm, Pitch 0.5mm, Exposed Pad, IPC Medium Density)
footprint MUC10A_L (TSSOP, 10-Leads, Body 3x3mm, Pitch 0.5mm, Exposed Pad, IPC High Density)
footprint MUC10A_M (TSSOP, 10-Leads, Body 3x3mm, Pitch 0.5mm, Exposed Pad, IPC Low Density)
pins: 1 VIN (in), 2 RT, 3 PGD (out), 4 SS, 5 SGND (power), 6 FB, 7 CSG (oe), 8 CS (in), 9 SW, 10 BST, 11 EP (power)

## LM25037MT/NOPB
designator U?
Dual-Mode PWM Controller With Alternating Outputs, 16-pin TSSOP, Pb-Free; PartNumber: LM25037MT/NOPB; Manufacturer: National Semiconductor; PackageTopMarking: NSUZXYTT*L25037*MT; PowerWise: Y; CompType: Switcher; DatasheetVersion: Jan-2010; PackageVersion: revD, Jun-2003; PackageReference: MTC16; PackageDescription: Molded TSSOP, Jedec, 5 x 4.4 x 0.9mm Body, 16 Lead, 0.65mm Pitch; RoHS: Y; PinCount: 16; High-Reliability: Y; Code_JEDEC: MO-153-AB; ComponentLink1Description: Manufacturer URL; ComponentLink1URL: http://www.national.com/; ComponentLink2Description: LM25037 Datasheet; ComponentLink2URL: http://www.national.com/ds/LM/LM25037.pdf; ComponentLink3Description: LM25037 Web Page; ComponentLink3URL: http://www.national.com/pf/LM/LM25037.html; ComponentLink4Description: MTC16 Package Page; ComponentLink4URL: http://www.national.com/packaging/folders/mtc16.html
footprint MTC16_N (TSOP, 16-Leads, Body 5x4.4mm, Pitch 0.65mm, IPC Medium Density)
footprint MTC16_L (TSOP, 16-Leads, Body 5x4.4mm, Pitch 0.65mm, IPC High Density)
footprint MTC16_M (TSOP, 16-Leads, Body 5x4.4mm, Pitch 0.65mm, IPC Low Density)
pins: 1 RAMP (in), 2 UVLO (in), 3 COMP, 4 FB (in), 5 RT2 (in), 6 AGND (power), 7 RT1 (in), 8 CS (in), 9 RES (in), 10 SS (in), 11 PGND (power), 12 OUTB (out), 13 OUTA (out), 14 VCC (power), 15 REF (out), 16 VIN (power)

## LM25037MTX/NOPB
designator U?
Dual-Mode PWM Controller With Alternating Outputs, 16-pin TSSOP, Pb-Free; PartNumber: LM25037MTX/NOPB; Manufacturer: National Semiconductor; PackageTopMarking: NSUZXYTT*L25037*MT; PowerWise: Y; CompType: Switcher; DatasheetVersion: Jan-2010; PackageVersion: revD, Jun-2003; PackageReference: MTC16; PackageDescription: Molded TSSOP, Jedec, 5 x 4.4 x 0.9mm Body, 16 Lead, 0.65mm Pitch; RoHS: Y; PinCount: 16; High-Reliability: Y; Code_JEDEC: MO-153-AB; ComponentLink1Description: Manufacturer URL; ComponentLink1URL: http://www.national.com/; ComponentLink2Description: LM25037 Datasheet; ComponentLink2URL: http://www.national.com/ds/LM/LM25037.pdf; ComponentLink3Description: LM25037 Web Page; ComponentLink3URL: http://www.national.com/pf/LM/LM25037.html; ComponentLink4Description: MTC16 Package Page; ComponentLink4URL: http://www.national.com/packaging/folders/mtc16.html
footprint MTC16_N (TSOP, 16-Leads, Body 5x4.4mm, Pitch 0.65mm, IPC Medium Density)
footprint MTC16_L (TSOP, 16-Leads, Body 5x4.4mm, Pitch 0.65mm, IPC High Density)
footprint MTC16_M (TSOP, 16-Leads, Body 5x4.4mm, Pitch 0.65mm, IPC Low Density)
pins: 1 RAMP (in), 2 UVLO (in), 3 COMP, 4 FB (in), 5 RT2 (in), 6 AGND (power), 7 RT1 (in), 8 CS (in), 9 RES (in), 10 SS (in), 11 PGND (power), 12 OUTB (out), 13 OUTA (out), 14 VCC (power), 15 REF (out), 16 VIN (power)

## LM25037QMT
designator U?
Dual-Mode PWM Controller With Alternating Outputs, Automotive Grade, 16-pin TSSOP; PartNumber: LM25037QMT; Manufacturer: National Semiconductor; PackageTopMarking: NSUZXYTT*M25037*MT; PowerWise: Y; CompType: Switcher; DatasheetVersion: Jan-2010; PackageVersion: revD, Jun-2003; PackageReference: MTC16; PackageDescription: Molded TSSOP, Jedec, 5 x 4.4 x 0.9mm Body, 16 Lead, 0.65mm Pitch; RoHS: Y; PinCount: 16; High-Reliability: Y; Code_JEDEC: MO-153-AB; ComponentLink1Description: Manufacturer URL; ComponentLink1URL: http://www.national.com/; ComponentLink2Description: LM25037 Datasheet; ComponentLink2URL: http://www.national.com/ds/LM/LM25037.pdf; ComponentLink3Description: LM25037 Web Page; ComponentLink3URL: http://www.national.com/pf/LM/LM25037.html; ComponentLink4Description: MTC16 Package Page; ComponentLink4URL: http://www.national.com/packaging/folders/mtc16.html
footprint MTC16_N (TSOP, 16-Leads, Body 5x4.4mm, Pitch 0.65mm, IPC Medium Density)
footprint MTC16_L (TSOP, 16-Leads, Body 5x4.4mm, Pitch 0.65mm, IPC High Density)
footprint MTC16_M (TSOP, 16-Leads, Body 5x4.4mm, Pitch 0.65mm, IPC Low Density)
pins: 1 RAMP (in), 2 UVLO (in), 3 COMP, 4 FB (in), 5 RT2 (in), 6 AGND (power), 7 RT1 (in), 8 CS (in), 9 RES (in), 10 SS (in), 11 PGND (power), 12 OUTB (out), 13 OUTA (out), 14 VCC (power), 15 REF (out), 16 VIN (power)

## LM25037QMT/NOPB
designator U?
Dual-Mode PWM Controller With Alternating Outputs, 16-pin TSSOP, Pb-Free; PartNumber: LM25037QMT/NOPB; Manufacturer: National Semiconductor; PackageTopMarking: NSUZXYTT*M25037*MT; PowerWise: Y; CompType: Switcher; DatasheetVersion: Jan-2010; PackageVersion: revD, Jun-2003; PackageReference: MTC16; PackageDescription: Molded TSSOP, Jedec, 5 x 4.4 x 0.9mm Body, 16 Lead, 0.65mm Pitch; RoHS: Y; PinCount: 16; High-Reliability: Y; Code_JEDEC: MO-153-AB; ComponentLink1Description: Manufacturer URL; ComponentLink1URL: http://www.national.com/; ComponentLink2Description: LM25037 Datasheet; ComponentLink2URL: http://www.national.com/ds/LM/LM25037.pdf; ComponentLink3Description: LM25037 Web Page; ComponentLink3URL: http://www.national.com/pf/LM/LM25037.html; ComponentLink4Description: MTC16 Package Page; ComponentLink4URL: http://www.national.com/packaging/folders/mtc16.html
footprint MTC16_N (TSOP, 16-Leads, Body 5x4.4mm, Pitch 0.65mm, IPC Medium Density)
footprint MTC16_L (TSOP, 16-Leads, Body 5x4.4mm, Pitch 0.65mm, IPC High Density)
footprint MTC16_M (TSOP, 16-Leads, Body 5x4.4mm, Pitch 0.65mm, IPC Low Density)
pins: 1 RAMP (in), 2 UVLO (in), 3 COMP, 4 FB (in), 5 RT2 (in), 6 AGND (power), 7 RT1 (in), 8 CS (in), 9 RES (in), 10 SS (in), 11 PGND (power), 12 OUTB (out), 13 OUTA (out), 14 VCC (power), 15 REF (out), 16 VIN (power)

## LM25037QMTX/NOPB
designator U?
Dual-Mode PWM Controller With Alternating Outputs, 16-pin TSSOP, Pb-Free; PartNumber: LM25037QMTX/NOPB; Manufacturer: National Semiconductor; PackageTopMarking: NSUZXYTT*M25037*MT; PowerWise: Y; CompType: Switcher; DatasheetVersion: Jan-2010; PackageVersion: revD, Jun-2003; PackageReference: MTC16; PackageDescription: Molded TSSOP, Jedec, 5 x 4.4 x 0.9mm Body, 16 Lead, 0.65mm Pitch; RoHS: Y; PinCount: 16; High-Reliability: Y; Code_JEDEC: MO-153-AB; ComponentLink1Description: Manufacturer URL; ComponentLink1URL: http://www.national.com/; ComponentLink2Description: LM25037 Datasheet; ComponentLink2URL: http://www.national.com/ds/LM/LM25037.pdf; ComponentLink3Description: LM25037 Web Page; ComponentLink3URL: http://www.national.com/pf/LM/LM25037.html; ComponentLink4Description: MTC16 Package Page; ComponentLink4URL: http://www.national.com/packaging/folders/mtc16.html
footprint MTC16_N (TSOP, 16-Leads, Body 5x4.4mm, Pitch 0.65mm, IPC Medium Density)
footprint MTC16_L (TSOP, 16-Leads, Body 5x4.4mm, Pitch 0.65mm, IPC High Density)
footprint MTC16_M (TSOP, 16-Leads, Body 5x4.4mm, Pitch 0.65mm, IPC Low Density)
pins: 1 RAMP (in), 2 UVLO (in), 3 COMP, 4 FB (in), 5 RT2 (in), 6 AGND (power), 7 RT1 (in), 8 CS (in), 9 RES (in), 10 SS (in), 11 PGND (power), 12 OUTB (out), 13 OUTA (out), 14 VCC (power), 15 REF (out), 16 VIN (power)

## LM25061PMM-1
designator U?
Positive Low Voltage Power Limiting Hot Swap Controller, 10-pin MSOP; PartNumber: LM25061PMM-1; Manufacturer: National Semiconductor; PackageTopMarking: ZXTT*SXSB; PowerWise: N; CompType: Switcher; High-Reliability: Y; DatasheetVersion: Jul-2009; PackageVersion: revB, Jul-2003; PackageReference: MUB10A; PackageDescription: Mini-SO, Molded, .118 x .118 x .034in Body, 10 Lead, .0197in Pitch; RoHS: Y; PinCount: 10; Code_JEDEC: MO-187-BA; ComponentLink1Description: Manufacturer URL; ComponentLink1URL: http://www.national.com/; ComponentLink2Description: LM25061 Datasheet; ComponentLink2URL: http://www.national.com/ds/LM/LM25061.pdf; ComponentLink3Description: LM25061 Web Page; ComponentLink3URL: http://www.national.com/pf/LM/LM25061.html; ComponentLink4Description: MUB10A Package Page; ComponentLink4URL: http://www.national.com/packaging/folders/mub10a.html
footprint MUB10A_N (TSSOP, 10-Leads, Body 3x3mm, Pitch 0.5mm, IPC Medium Density)
footprint MUB10A_L (TSSOP, 10-Leads, Body 3x3mm, Pitch 0.5mm, IPC High Density)
footprint MUB10A_M (TSSOP, 10-Leads, Body 3x3mm, Pitch 0.5mm, IPC Low Density)
pins: 1 SENSE (in), 2 VIN (power), 3 UVLO/EN (in), 4 FB (in), 5 GND (power), 6 TIMER (in), 7 PWR (in), 8 PGD (oc), 9 OUT (power), 10 GATE (out)

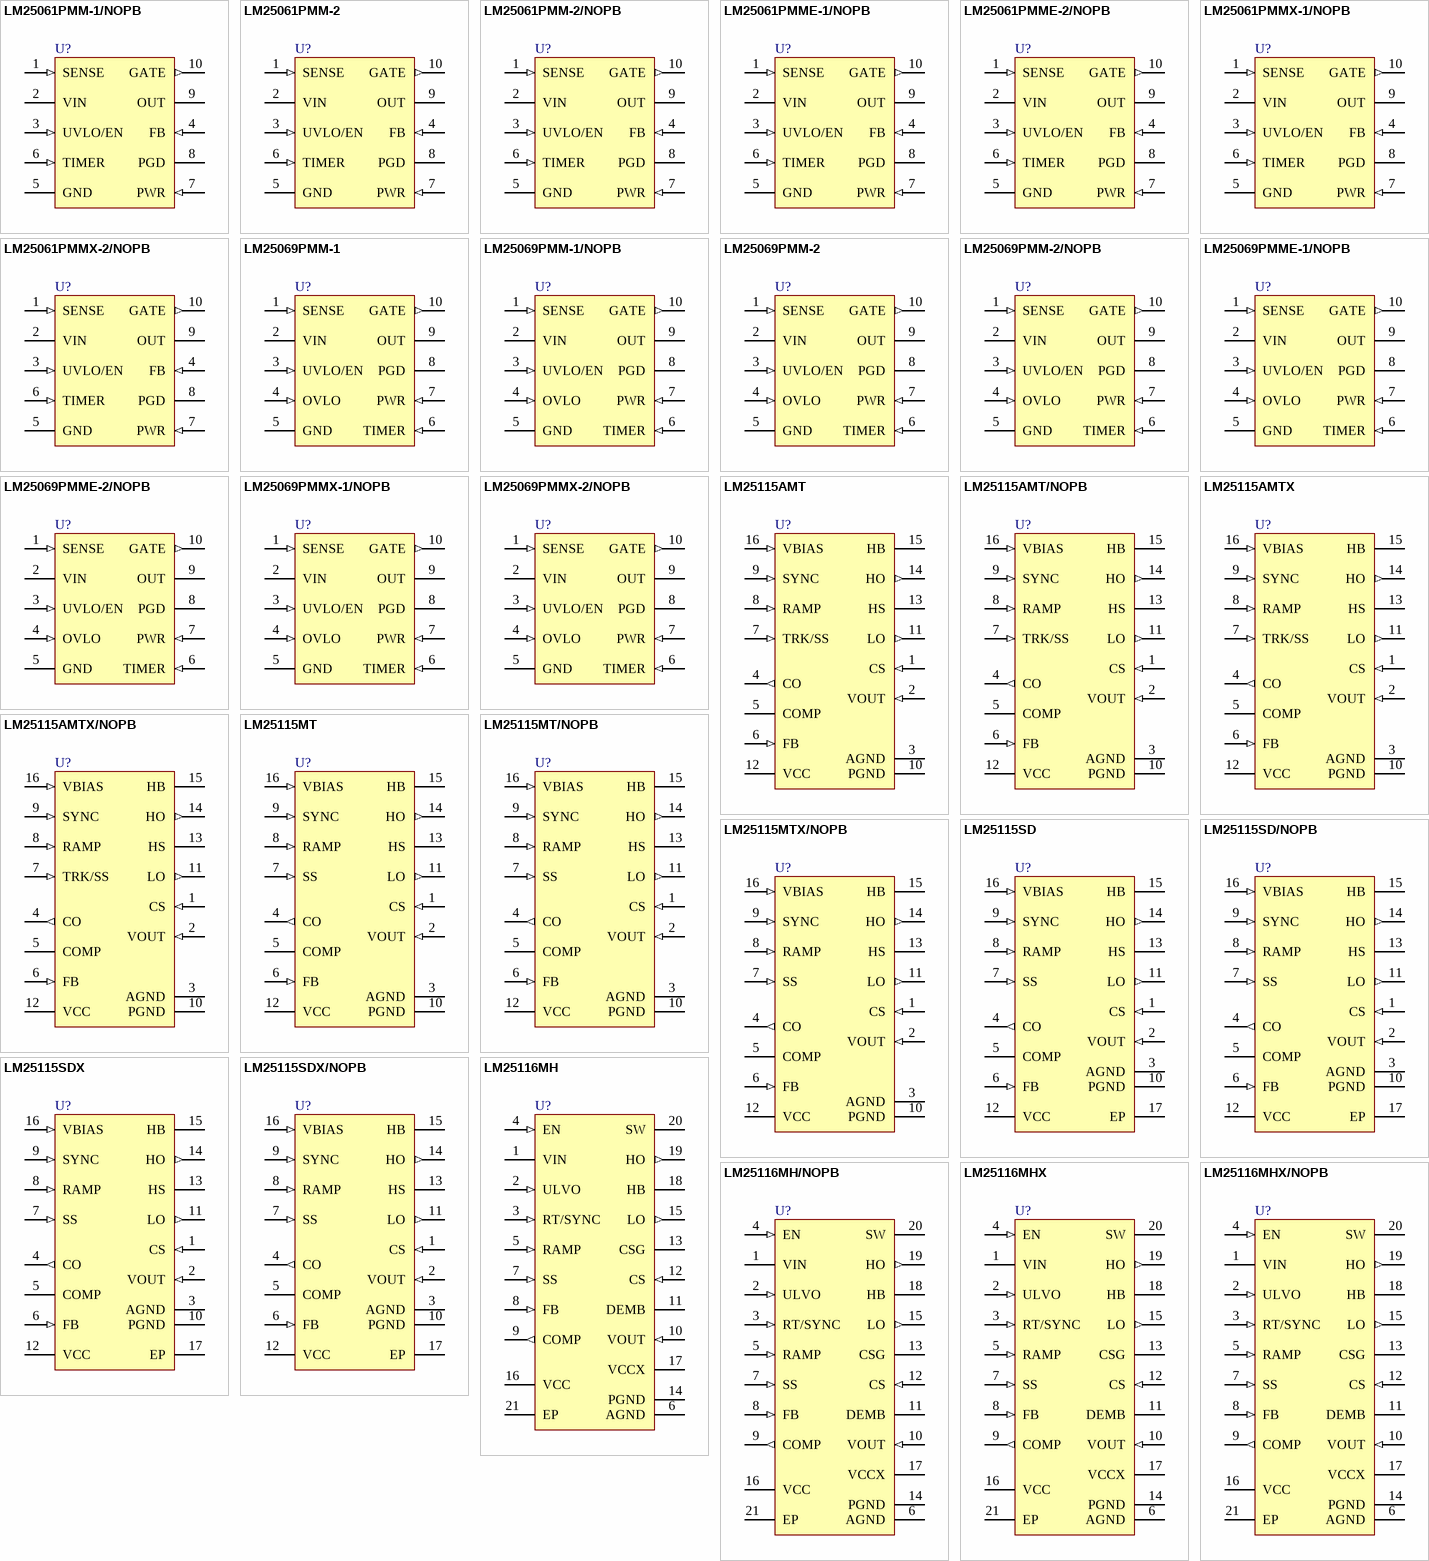
[diagram p56: symbols LM25061PMM-1/NOPB to LM25116MHX/NOPB]

## LM25061PMM-1/NOPB
designator U?
Positive Low Voltage Power Limiting Hot Swap Controller, 10-pin MSOP, Pb-Free; PartNumber: LM25061PMM-1/NOPB; Manufacturer: National Semiconductor; PackageTopMarking: ZXTT*SXSB; PowerWise: N; CompType: Switcher; High-Reliability: Y; DatasheetVersion: Jul-2009; PackageVersion: revB, Jul-2003; PackageReference: MUB10A; PackageDescription: Mini-SO, Molded, .118 x .118 x .034in Body, 10 Lead, .0197in Pitch; RoHS: Y; PinCount: 10; Code_JEDEC: MO-187-BA; ComponentLink1Description: Manufacturer URL; ComponentLink1URL: http://www.national.com/; ComponentLink2Description: LM25061 Datasheet; ComponentLink2URL: http://www.national.com/ds/LM/LM25061.pdf; ComponentLink3Description: LM25061 Web Page; ComponentLink3URL: http://www.national.com/pf/LM/LM25061.html; ComponentLink4Description: MUB10A Package Page; ComponentLink4URL: http://www.national.com/packaging/folders/mub10a.html
footprint MUB10A_N (TSSOP, 10-Leads, Body 3x3mm, Pitch 0.5mm, IPC Medium Density)
footprint MUB10A_L (TSSOP, 10-Leads, Body 3x3mm, Pitch 0.5mm, IPC High Density)
footprint MUB10A_M (TSSOP, 10-Leads, Body 3x3mm, Pitch 0.5mm, IPC Low Density)
pins: 1 SENSE (in), 2 VIN (power), 3 UVLO/EN (in), 4 FB (in), 5 GND (power), 6 TIMER (in), 7 PWR (in), 8 PGD (oc), 9 OUT (power), 10 GATE (out)

## LM25061PMM-2
designator U?
Positive Low Voltage Power Limiting Hot Swap Controller, 10-pin MSOP; PartNumber: LM25061PMM-2; Manufacturer: National Semiconductor; PackageTopMarking: ZXTT*SXRB; PowerWise: N; CompType: Switcher; High-Reliability: Y; DatasheetVersion: Jul-2009; PackageVersion: revB, Jul-2003; PackageReference: MUB10A; PackageDescription: Mini-SO, Molded, .118 x .118 x .034in Body, 10 Lead, .0197in Pitch; RoHS: Y; PinCount: 10; Code_JEDEC: MO-187-BA; ComponentLink1Description: Manufacturer URL; ComponentLink1URL: http://www.national.com/; ComponentLink2Description: LM25061 Datasheet; ComponentLink2URL: http://www.national.com/ds/LM/LM25061.pdf; ComponentLink3Description: LM25061 Web Page; ComponentLink3URL: http://www.national.com/pf/LM/LM25061.html; ComponentLink4Description: MUB10A Package Page; ComponentLink4URL: http://www.national.com/packaging/folders/mub10a.html
footprint MUB10A_N (TSSOP, 10-Leads, Body 3x3mm, Pitch 0.5mm, IPC Medium Density)
footprint MUB10A_L (TSSOP, 10-Leads, Body 3x3mm, Pitch 0.5mm, IPC High Density)
footprint MUB10A_M (TSSOP, 10-Leads, Body 3x3mm, Pitch 0.5mm, IPC Low Density)
pins: 1 SENSE (in), 2 VIN (power), 3 UVLO/EN (in), 4 FB (in), 5 GND (power), 6 TIMER (in), 7 PWR (in), 8 PGD (oc), 9 OUT (power), 10 GATE (out)

## LM25061PMM-2/NOPB
designator U?
Positive Low Voltage Power Limiting Hot Swap Controller, 10-pin MSOP, Pb-Free; PartNumber: LM25061PMM-2/NOPB; Manufacturer: National Semiconductor; PackageTopMarking: ZXTT*SXRB; PowerWise: N; CompType: Switcher; High-Reliability: Y; DatasheetVersion: Jul-2009; PackageVersion: revB, Jul-2003; PackageReference: MUB10A; PackageDescription: Mini-SO, Molded, .118 x .118 x .034in Body, 10 Lead, .0197in Pitch; RoHS: Y; PinCount: 10; Code_JEDEC: MO-187-BA; ComponentLink1Description: Manufacturer URL; ComponentLink1URL: http://www.national.com/; ComponentLink2Description: LM25061 Datasheet; ComponentLink2URL: http://www.national.com/ds/LM/LM25061.pdf; ComponentLink3Description: LM25061 Web Page; ComponentLink3URL: http://www.national.com/pf/LM/LM25061.html; ComponentLink4Description: MUB10A Package Page; ComponentLink4URL: http://www.national.com/packaging/folders/mub10a.html
footprint MUB10A_N (TSSOP, 10-Leads, Body 3x3mm, Pitch 0.5mm, IPC Medium Density)
footprint MUB10A_L (TSSOP, 10-Leads, Body 3x3mm, Pitch 0.5mm, IPC High Density)
footprint MUB10A_M (TSSOP, 10-Leads, Body 3x3mm, Pitch 0.5mm, IPC Low Density)
pins: 1 SENSE (in), 2 VIN (power), 3 UVLO/EN (in), 4 FB (in), 5 GND (power), 6 TIMER (in), 7 PWR (in), 8 PGD (oc), 9 OUT (power), 10 GATE (out)